# Altium integrated library NSC Comparator.IntLib: 93 symbols (part 3 of 3)
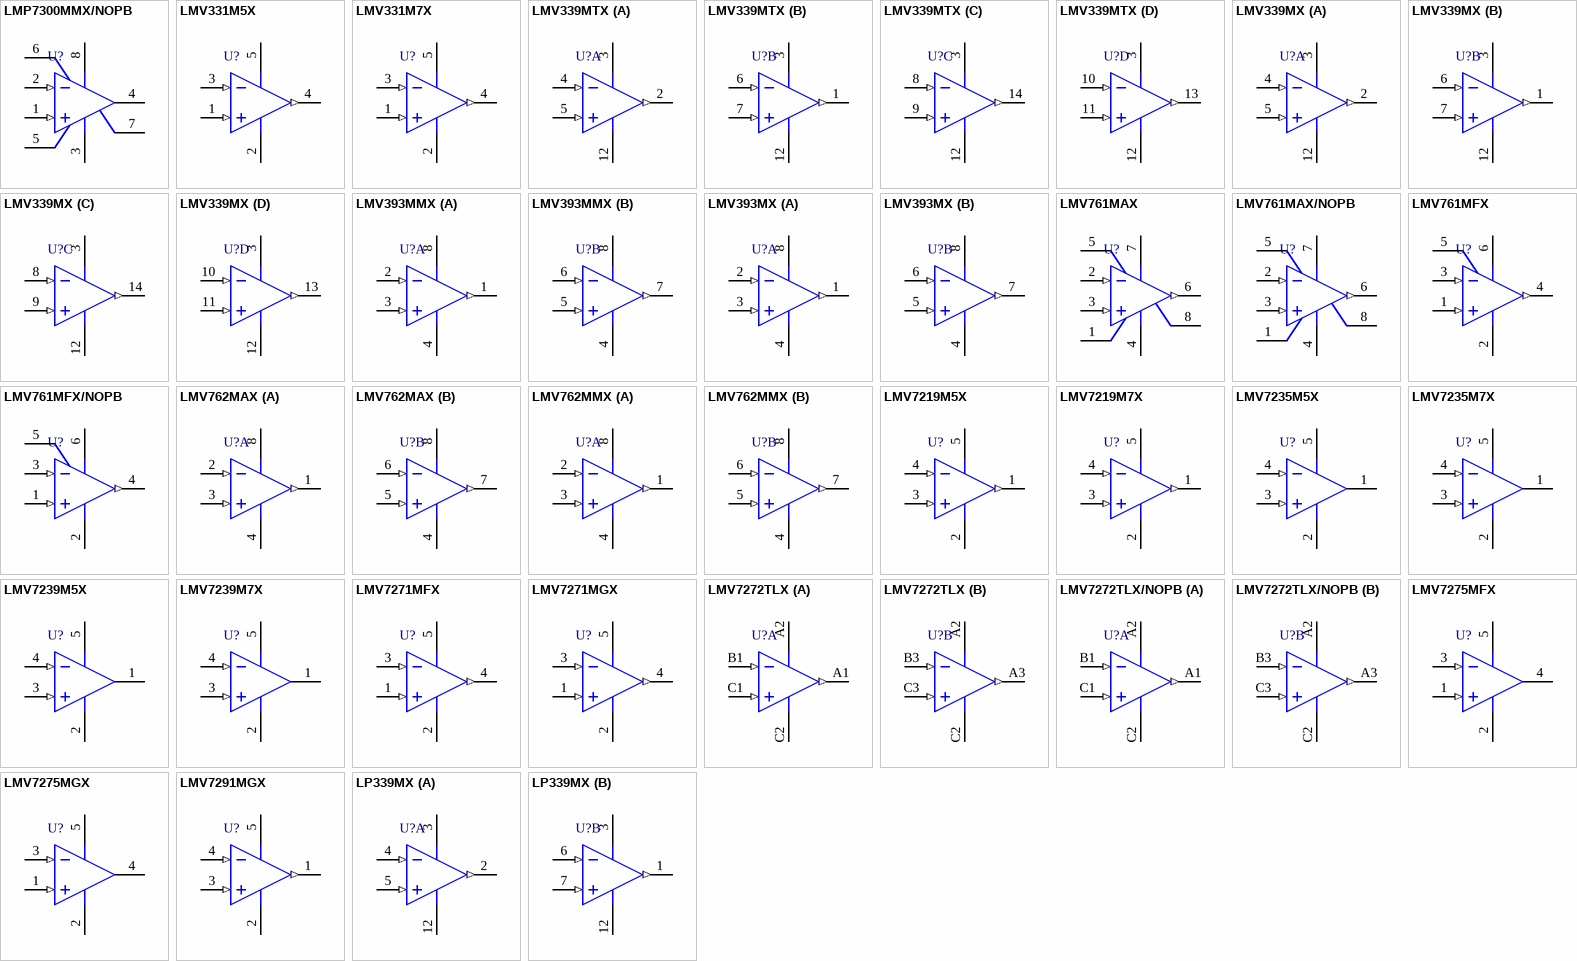
[diagram p6: symbols LMP7300MMX/NOPB to LP339MX]

## LMV7239M7X
designator U?
45 nsec, Ultra Low Power, Low Voltage, Rail-to-Rail Input Comparator with Open-Drain/Push-Pull Output, 5-pin SC-70; PartNumber: LMV7239M7X; Manufacturer: National Semiconductor; PackageTopMarking: C20*XTT; PowerWise: Y; Published: 4-Dec-2008; DatasheetVersion: Jul-2008; PackageVersion: revD, Jun-2007; PackageReference: MAA05A; Publisher: Altium Limited; PackageDescription: Molded SC-70, 2 x 1.25 x .9mm, 5 Lead, 0.65mm Pitch; RoHS: N; PinCount: 5; CompType: Comparator; Code_JEITA: SC-88A; Code_JEDEC: MO-203-AA; Code_IPC: SOT353-5; ComponentLink1Description: LMV7239 Datasheet; ComponentLink1URL: http://www.national.com/ds/LM/LMV7239.pdf; ComponentLink2Description: LMV7239 Web Page; ComponentLink2URL: http://www.national.com/pf/LM/LMV7239.html; ComponentLink3Description: MAA05A Package Page; ComponentLink3URL: http://www.national.com/packaging/folders/maa05a.html
footprint MAA05A_N (SOT353, 5-Leads, Body 2x1.3mm, Pitch 0.65mm, Lead Span 2.1mm, IPC Medium Density)
footprint MAA05A_L (SOT353, 5-Leads, Body 2x1.3mm, Pitch 0.65mm, Lead Span 2.1mm, IPC High Density)
footprint MAA05A_M (SOT353, 5-Leads, Body 2x1.3mm, Pitch 0.65mm, Lead Span 2.1mm, IPC Low Density)
pins: 1 VOUT (oc), 2 V- (power), 3 IN+ (in), 4 IN- (in), 5 V+ (power)

## LMV7271MFX
designator U?
Single 1.8V Low Power Comparators with Rail-to-Rail Input, 5-pin SOT-23; PartNumber: LMV7271MFX; Manufacturer: National Semiconductor; PackageTopMarking: C25A*XTT; PowerWise: Y; Published: 4-Dec-2008; DatasheetVersion: May-2008; PackageVersion: revD, Aug-2008; PackageReference: MF05A; Publisher: Altium Limited; PackageDescription: Molded SOT-23, .115 x .063 x .040 in Body, 5 Lead, .0375 in Pitch; RoHS: Y; PinCount: 5; CompType: Comparator; ComponentLink1Description: LMV7271 Datasheet; ComponentLink1URL: http://www.national.com/ds/LM/LMV7271.pdf; ComponentLink2Description: LMV7271  Web Page; ComponentLink2URL: http://www.national.com/pf/LM/LMV7271.html; ComponentLink3Description: MF05A Package Page; ComponentLink3URL: http://www.national.com/packaging/folders/mf05a.html
footprint MF05A_N (SOT23, 5-Leads, Body 2.9x1.6mm, Pitch 0.95mm, Lead Span 2.8mm, IPC Medium Density)
footprint MF05A_L (SOT23, 5-Leads, Body 2.9x1.6mm, Pitch 0.95mm, Lead Span 2.8mm, IPC High Density)
footprint MF05A_M (SOT23, 5-Leads, Body 2.9x1.6mm, Pitch 0.95mm, Lead Span 2.8mm, IPC Low Density)
pins: 1 IN+ (in), 2 GND (power), 3 IN- (in), 4 OUT (out), 5 V+ (power)

## LMV7271MGX
designator U?
Single 1.8V Low Power Comparators with Rail-to-Rail Input, 5-pin SC-70; PartNumber: LMV7271MGX; Manufacturer: National Semiconductor; PackageTopMarking: C34*XTT; PowerWise: Y; Published: 4-Dec-2008; DatasheetVersion: May-2008; PackageVersion: revD, Jun-2007; PackageReference: MAA05A; Publisher: Altium Limited; PackageDescription: Molded SC-70, 2 x 1.25 x .9mm, 5 Lead, 0.65mm Pitch; RoHS: N; PinCount: 5; CompType: Comparator; Code_JEITA: SC-88A; Code_JEDEC: MO-203-AA; Code_IPC: SOT353-5; ComponentLink1Description: LMV7271 Datasheet; ComponentLink1URL: http://www.national.com/ds/LM/LMV7271.pdf; ComponentLink2Description: LMV7271 Web Page; ComponentLink2URL: http://www.national.com/pf/LM/LMV7271.html; ComponentLink3Description: MAA05A Package Page; ComponentLink3URL: http://www.national.com/packaging/folders/maa05a.html
footprint MAA05A_N (SOT353, 5-Leads, Body 2x1.3mm, Pitch 0.65mm, Lead Span 2.1mm, IPC Medium Density)
footprint MAA05A_L (SOT353, 5-Leads, Body 2x1.3mm, Pitch 0.65mm, Lead Span 2.1mm, IPC High Density)
footprint MAA05A_M (SOT353, 5-Leads, Body 2x1.3mm, Pitch 0.65mm, Lead Span 2.1mm, IPC Low Density)
pins: 1 IN+ (in), 2 GND (power), 3 IN- (in), 4 OUT (out), 5 V+ (power)

## LMV7272TLX
designator U?
Dual 1.8V Low Power Comparators with Rail-to-Rail Input, 8-pin Micro SMD; PartNumber: LMV7272TLX; Manufacturer: National Semiconductor; PackageTopMarking: XVC*I 01; PowerWise: Y; Published: 4-Dec-2008; DatasheetVersion: May-2008; PackageVersion: revC, Jan-2004; PackageReference: TLA08AAA; Publisher: Altium Limited; PackageDescription: Thin Micro SMD, 8 Bump (Large), 0.5mm Pitch; RoHS: N; PinCount: 8; CompType: Comparator; ComponentLink1Description: LMV7272 Datasheet; ComponentLink1URL: http://www.national.com/ds/LM/LMV7272.pdf; ComponentLink2Description: LMV7272  Web Page; ComponentLink2URL: http://www.national.com/pf/LM/LMV7272.html; ComponentLink3Description: TLA08AAA Package Page; ComponentLink3URL: http://www.national.com/packaging/folders/tla08aaa.html
footprint TLA08AAA (Micro SMD, 8-Leads, Body 1.52x1.52mm, Pitch 0.5mm, NSC Recommended)
pins on every part: A2 V+ (power), C2 V- (power)
part A pins: A1 OUTA (out), B1 INA- (in), C1 INA+ (in)
part B pins: A3 OUTB (out), B3 INB- (in), C3 INB+ (in)

## LMV7272TLX/NOPB
designator U?
Dual 1.8V Low Power Comparators with Rail-to-Rail Input, 8-pin Micro SMD, Pb-Free; PartNumber: LMV7272TLX/NOPB; Manufacturer: National Semiconductor; PackageTopMarking: XVC*I 01; PowerWise: Y; Published: 1-Mar-2010; DatasheetVersion: May-2008; PackageVersion: revC, Jan-2004; PackageReference: TLA08AAA; Publisher: Altium Limited; PackageDescription: Thin Micro SMD, 8 Bump (Large), 0.5mm Pitch; Supplier 1: Digi-Key; Supplier Part Number 1: LMV7272TLX-ND; RoHS: Y; PinCount: 8; CompType: Comparator; ComponentLink1Description: LMV7272 Datasheet; ComponentLink1URL: http://www.national.com/ds/LM/LMV7272.pdf; ComponentLink2Description: LMV7272 Web Page; ComponentLink2URL: http://www.national.com/pf/LM/LMV7272.html; ComponentLink3Description: TLA08AAA Package Page; ComponentLink3URL: http://www.national.com/packaging/folders/tla08aaa.html
footprint TLA08AAA (Micro SMD, 8-Leads, Body 1.52x1.52mm, Pitch 0.5mm, NSC Recommended)
simulation model LMV7271 (SUBCKT)
pins on every part: A2 V+ (power), C2 V- (power)
part A pins: A1 OUTA (out), B1 INA- (in), C1 INA+ (in)
part B pins: A3 OUTB (out), B3 INB- (in), C3 INB+ (in)

## LMV7275MFX
designator U?
Single 1.8V Low Power Comparators with Rail-to-Rail Input, 5-pin SOT-23; PartNumber: LMV7275MFX; Manufacturer: National Semiconductor; PackageTopMarking: C26A*XTT; PowerWise: Y; Published: 4-Dec-2008; DatasheetVersion: May-2008; PackageVersion: revD, Aug-2008; PackageReference: MF05A; Publisher: Altium Limited; PackageDescription: Molded SOT-23, .115 x .063 x .040 in Body, 5 Lead, .0375 in Pitch; RoHS: N; PinCount: 5; CompType: Comparator; ComponentLink1Description: LMV7275 Datasheet; ComponentLink1URL: http://www.national.com/ds/LM/LMV7275.pdf; ComponentLink2Description: LMV7275 Web Page; ComponentLink2URL: http://www.national.com/pf/LM/LMV7275.html; ComponentLink3Description: MF05A Package Page; ComponentLink3URL: http://www.national.com/packaging/folders/mf05a.html
footprint MF05A_N (SOT23, 5-Leads, Body 2.9x1.6mm, Pitch 0.95mm, Lead Span 2.8mm, IPC Medium Density)
footprint MF05A_L (SOT23, 5-Leads, Body 2.9x1.6mm, Pitch 0.95mm, Lead Span 2.8mm, IPC High Density)
footprint MF05A_M (SOT23, 5-Leads, Body 2.9x1.6mm, Pitch 0.95mm, Lead Span 2.8mm, IPC Low Density)
pins: 1 IN+ (in), 2 GND (power), 3 IN- (in), 4 OUT (oc), 5 V+ (power)

## LMV7275MGX
designator U?
Single 1.8V Low Power Comparators with Rail-to-Rail Input, 5-pin SC-70; PartNumber: LMV7275MGX; Manufacturer: National Semiconductor; PackageTopMarking: C35*XTT; PowerWise: Y; Published: 4-Dec-2008; DatasheetVersion: May-2008; PackageVersion: revD, Jun-2007; PackageReference: MAA05A; Publisher: Altium Limited; PackageDescription: Molded SC-70, 2 x 1.25 x .9mm, 5 Lead, 0.65mm Pitch; RoHS: N; PinCount: 5; CompType: Comparator; Code_JEITA: SC-88A; Code_JEDEC: MO-203-AA; Code_IPC: SOT353-5; ComponentLink1Description: LMV7275 Datasheet; ComponentLink1URL: http://www.national.com/ds/LM/LMV7275.pdf; ComponentLink2Description: LMV7275 Web Page; ComponentLink2URL: http://www.national.com/pf/LM/LMV7275.html; ComponentLink3Description: MAA05A Package Page; ComponentLink3URL: http://www.national.com/packaging/folders/maa05a.html
footprint MAA05A_N (SOT353, 5-Leads, Body 2x1.3mm, Pitch 0.65mm, Lead Span 2.1mm, IPC Medium Density)
footprint MAA05A_L (SOT353, 5-Leads, Body 2x1.3mm, Pitch 0.65mm, Lead Span 2.1mm, IPC High Density)
footprint MAA05A_M (SOT353, 5-Leads, Body 2x1.3mm, Pitch 0.65mm, Lead Span 2.1mm, IPC Low Density)
pins: 1 IN+ (in), 2 GND (power), 3 IN- (in), 4 OUT (oc), 5 V+ (power)

## LMV7291MGX
designator U?
Single 1.8V Power Comparator with Rail-to-Rail Input, 5-pin SC-70; PartNumber: LMV7291MGX; Manufacturer: National Semiconductor; PackageTopMarking: C36*XTT; PowerWise: Y; Published: 4-Dec-2008; DatasheetVersion: Mar-2004; PackageVersion: revD, Jun-2007; PackageReference: MAA05A; Publisher: Altium Limited; PackageDescription: Molded SC-70, 2 x 1.25 x .9mm, 5 Lead, 0.65mm Pitch; RoHS: N; PinCount: 5; CompType: Comparator; Code_JEITA: SC-88A; Code_JEDEC: MO-203-AA; Code_IPC: SOT353-5; ComponentLink1Description: LMV7291 Datasheet; ComponentLink1URL: http://www.national.com/ds/LM/LMV7291.pdf; ComponentLink2Description: LMV7291 Web Page; ComponentLink2URL: http://www.national.com/pf/LM/LMV7291.html; ComponentLink3Description: MAA05A Package Page; ComponentLink3URL: http://www.national.com/packaging/folders/maa05a.html
footprint MAA05A_N (SOT353, 5-Leads, Body 2x1.3mm, Pitch 0.65mm, Lead Span 2.1mm, IPC Medium Density)
footprint MAA05A_L (SOT353, 5-Leads, Body 2x1.3mm, Pitch 0.65mm, Lead Span 2.1mm, IPC High Density)
footprint MAA05A_M (SOT353, 5-Leads, Body 2x1.3mm, Pitch 0.65mm, Lead Span 2.1mm, IPC Low Density)
pins: 1 OUT (out), 2 GND (power), 3 IN+ (in), 4 IN- (in), 5 V+ (power)

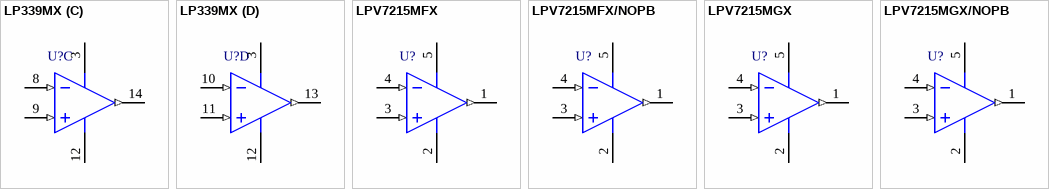
[diagram p4: symbols LP339MX to LPV7215MGX/NOPB]

## LP339MX
designator U?
Ultra-Low Power Quad Comparator, 14-pin Narrow SOIC; PartNumber: LP339MX; Manufacturer: National Semiconductor; PackageTopMarking: NSUZXYTTE#*LP339M; PowerWise: N; Published: 4-Dec-2008; DatasheetVersion: Aug-2000; PackageVersion: revJ, Jan-1996; PackageReference: M14A; Publisher: Altium Limited; PackageDescription: Molded Package S.O., .150in Wide, 14 Lead; RoHS: N; PinCount: 14; CompType: Comparator; Code_JEDEC: MS-012AB; Code_IPC: SOIC127P600-14; ComponentLink1Description: LP339 Datasheet; ComponentLink1URL: http://www.national.com/ds/LP/LP339.pdf; ComponentLink2Description: LP339 Web Page; ComponentLink2URL: http://www.national.com/pf/LP/LP339.html; ComponentLink3Description: M14A Package Page; ComponentLink3URL: http://www.national.com/packaging/folders/m14a.html
footprint M14A_N (SOIC, 14-Leads, Body 8.6x3.9mm, Pitch 1.27mm, IPC Medium Density)
footprint M14A_L (SOIC, 14-Leads, Body 8.6x3.9mm, Pitch 1.27mm, IPC High Density)
footprint M14A_M (SOIC, 14-Leads, Body 8.6x3.9mm, Pitch 1.27mm, IPC Low Density)
pins on every part: 3 V+ (power), 12 GND (power)
part A pins: 2 OUT1 (out), 4 IN1- (in), 5 IN1+ (in)
part B pins: 1 OUT2 (out), 6 IN2- (in), 7 IN2+ (in)
part C pins: 8 IN3- (in), 9 IN3+ (in), 14 OUT3 (out)
part D pins: 10 IN4- (in), 11 IN4+ (in), 13 OUT4 (out)

## LPV7215MFX
designator U?
Micropower, CMOS Input, RRIO, 1.8V, Push-Pull Output Comparator, 5-pin SOT-23; PartNumber: LPV7215MFX; Manufacturer: National Semiconductor; PackageTopMarking: C30A*XTT; PowerWise: Y; Published: 4-Dec-2008; DatasheetVersion: Dec-2007; PackageVersion: revD, Aug-2008; PackageReference: MF05A; Publisher: Altium Limited; PackageDescription: Molded SOT-23, .115 x .063 x .040 in Body, 5 Lead, .0375 in Pitch; RoHS: Y; PinCount: 5; CompType: Comparator; ComponentLink1Description: LPV7215 Datasheet; ComponentLink1URL: http://www.national.com/ds/LP/LPV7215.pdf; ComponentLink2Description: LPV7215  Web Page; ComponentLink2URL: http://www.national.com/pf/LM/LPV7215.html; ComponentLink3Description: MF05A Package Page; ComponentLink3URL: http://www.national.com/packaging/folders/mf05a.html
footprint MF05A_N (SOT23, 5-Leads, Body 2.9x1.6mm, Pitch 0.95mm, Lead Span 2.8mm, IPC Medium Density)
footprint MF05A_L (SOT23, 5-Leads, Body 2.9x1.6mm, Pitch 0.95mm, Lead Span 2.8mm, IPC High Density)
footprint MF05A_M (SOT23, 5-Leads, Body 2.9x1.6mm, Pitch 0.95mm, Lead Span 2.8mm, IPC Low Density)
pins: 1 VOUT (out), 2 V- (power), 3 IN+ (in), 4 IN- (in), 5 V+ (power)

## LPV7215MFX/NOPB
designator U?
Micropower, CMOS Input, RRIO, 1.8V, Push-Pull Output Comparator, 5-pin SOT-23, Pb-Free; PartNumber: LPV7215MFX/NOPB; Manufacturer: National Semiconductor; PackageTopMarking: C30A*XTT; PowerWise: Y; Published: 1-Mar-2010; DatasheetVersion: Dec-2007; PackageVersion: revD, Aug-2008; PackageReference: MF05A; Publisher: Altium Limited; PackageDescription: Molded SOT-23, .115 x .063 x .040 in Body, 5 Lead, .0375 in Pitch; Supplier 1: Digi-Key; Supplier Part Number 1: LPV7215MFX-ND; RoHS: Y; PinCount: 5; CompType: Comparator; ComponentLink1Description: LPV7215 Datasheet; ComponentLink1URL: http://www.national.com/ds/LP/LPV7215.pdf; ComponentLink2Description: LPV7215 Web Page; ComponentLink2URL: http://www.national.com/pf/LP/LPV7215.html; ComponentLink3Description: MF05A Package Page; ComponentLink3URL: http://www.national.com/packaging/folders/mf05a.html
footprint MF05A_N (SOT23, 5-Leads, Body 2.9x1.6mm, Pitch 0.95mm, Lead Span 2.8mm, IPC Medium Density)
footprint MF05A_L (SOT23, 5-Leads, Body 2.9x1.6mm, Pitch 0.95mm, Lead Span 2.8mm, IPC High Density)
footprint MF05A_M (SOT23, 5-Leads, Body 2.9x1.6mm, Pitch 0.95mm, Lead Span 2.8mm, IPC Low Density)
pins: 1 VOUT (out), 2 V- (power), 3 IN+ (in), 4 IN- (in), 5 V+ (power)

## LPV7215MGX
designator U?
Micropower, CMOS Input, RRIO, 1.8V, Push-Pull Output Comparator, 5-pin SC-70; PartNumber: LPV7215MGX; Manufacturer: National Semiconductor; PackageTopMarking: C37*XTT; PowerWise: Y; Published: 4-Dec-2008; DatasheetVersion: Dec-2007; PackageVersion: revD, Jun-2007; PackageReference: MAA05A; Publisher: Altium Limited; PackageDescription: Molded SC-70, 2 x 1.25 x .9mm, 5 Lead, 0.65mm Pitch; RoHS: Y; PinCount: 5; CompType: Comparator; Code_JEITA: SC-88A; Code_JEDEC: MO-203-AA; Code_IPC: SOT353-5; ComponentLink1Description: LPV7215 Datasheet; ComponentLink1URL: http://www.national.com/ds/LP/LPV7215.pdf; ComponentLink2Description: LPV7215  Web Page; ComponentLink2URL: http://www.national.com/pf/LM/LPV7215.html; ComponentLink3Description: MAA05A Package Page; ComponentLink3URL: http://www.national.com/packaging/folders/maa05a.html
footprint MAA05A_N (SOT353, 5-Leads, Body 2x1.3mm, Pitch 0.65mm, Lead Span 2.1mm, IPC Medium Density)
footprint MAA05A_L (SOT353, 5-Leads, Body 2x1.3mm, Pitch 0.65mm, Lead Span 2.1mm, IPC High Density)
footprint MAA05A_M (SOT353, 5-Leads, Body 2x1.3mm, Pitch 0.65mm, Lead Span 2.1mm, IPC Low Density)
pins: 1 VOUT (out), 2 V- (power), 3 IN+ (in), 4 IN- (in), 5 V+ (power)

## LPV7215MGX/NOPB
designator U?
Micropower, CMOS Input, RRIO, 1.8V, Push-Pull Output Comparator, 5-pin SC-70, Pb-Free; PartNumber: LPV7215MGX/NOPB; Manufacturer: National Semiconductor; PackageTopMarking: C37*XTT; PowerWise: Y; Published: 1-Mar-2010; DatasheetVersion: Dec-2007; PackageVersion: revD, Jun-2007; PackageReference: MAA05A; Publisher: Altium Limited; PackageDescription: Molded SC-70, 2 x 1.25 x .9mm, 5 Lead, 0.65mm Pitch; Supplier 1: Digi-Key; Supplier Part Number 1: LPV7215MGX-ND; RoHS: Y; PinCount: 5; CompType: Comparator; Code_JEITA: SC-88A; Code_JEDEC: MO-203-AA; Code_IPC: SOT353-5; ComponentLink1Description: LPV7215 Datasheet; ComponentLink1URL: http://www.national.com/ds/LP/LPV7215.pdf; ComponentLink2Description: LPV7215 Web Page; ComponentLink2URL: http://www.national.com/pf/LP/LPV7215.html; ComponentLink3Description: MAA05A Package Page; ComponentLink3URL: http://www.national.com/packaging/folders/maa05a.html
footprint MAA05A_N (SOT353, 5-Leads, Body 2x1.3mm, Pitch 0.65mm, Lead Span 2.1mm, IPC Medium Density)
footprint MAA05A_L (SOT353, 5-Leads, Body 2x1.3mm, Pitch 0.65mm, Lead Span 2.1mm, IPC High Density)
footprint MAA05A_M (SOT353, 5-Leads, Body 2x1.3mm, Pitch 0.65mm, Lead Span 2.1mm, IPC Low Density)
pins: 1 VOUT (out), 2 V- (power), 3 IN+ (in), 4 IN- (in), 5 V+ (power)